# Altium footprint library 6902 0710 xx 72.PcbLib: 12 footprints
Each footprint in its own frame and in the unit in brackets; x right, y up, seen from the top. Pads: shape width x height; smd on the part's side, far side on the other; paste and mask are expansions set on the pad; w line width, h text height; cw(c..) or ccw(c..) is an arc to the next point about the centre after c.
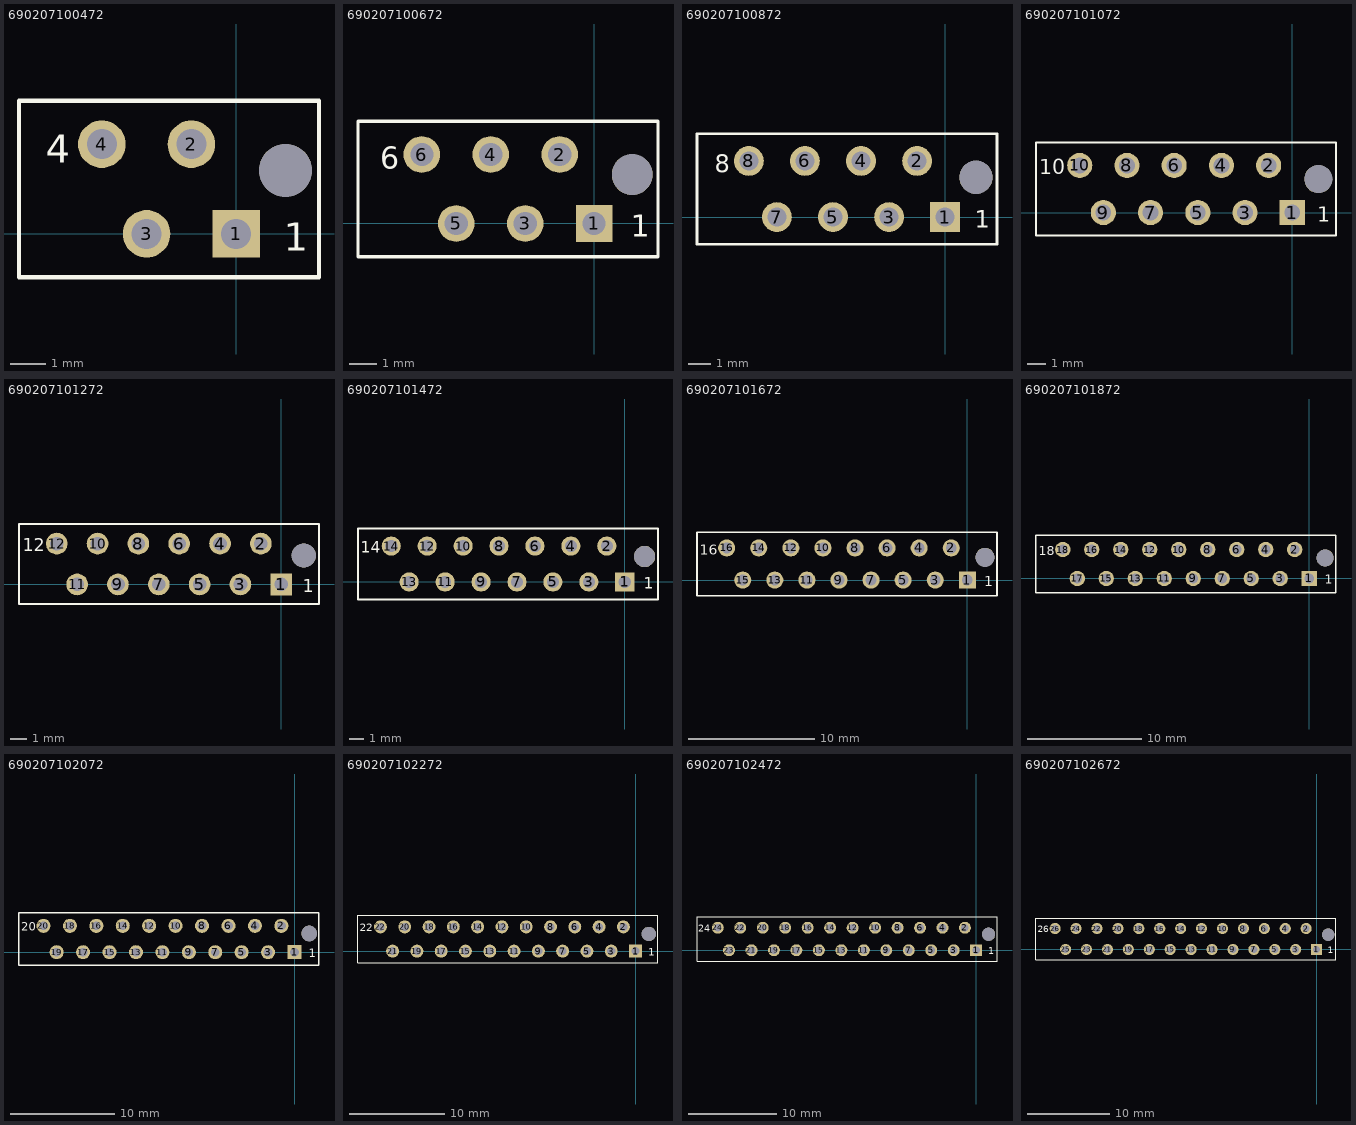
[diagram p0: the footprints below, top view; thin cyan lines are the x and y axes]

## 690207100472 [mm] "4 pins"
height 6.8
pads (5):
  rect 1.35x1.35 hole 0.85: 1(0,0)
  round 1.35 hole 0.85: 2(-1.27,2.54) 3(-2.54,0) 4(-3.81,2.54)
  round 1.5 hole 1.5 unplated: ""(1.4,1.8)
Top Overlay:
  lines w0.127: -6.16,3.77 2.35,3.77 2.35,-1.23 -6.16,-1.23 -6.16,3.77
  text "1" at 1.345,-0.48 h0.8
  text "4" at -5.405,2.02 h0.8
3D body: height 7.01, standoff -3.19, extent -6.16,-1.23 2.35,3.77

## 690207100672 [mm] "6 pins"
height 6.8
pads (7):
  rect 1.35x1.35 hole 0.85: 1(0,0)
  round 1.35 hole 0.85: 2(-1.27,2.54) 3(-2.54,0) 4(-3.81,2.54) 5(-5.08,0) 6(-6.35,2.54)
  round 1.5 hole 1.5 unplated: ""(1.4,1.8)
Top Overlay:
  lines w0.127: -8.7,-1.23 2.35,-1.23 2.35,3.77 -8.7,3.77 -8.7,-1.23
  text "6" at -7.885,2.02 h0.8
  text "1" at 1.345,-0.48 h0.8
3D body: height 7.01, standoff -3.19, extent -8.7,-1.23 2.35,3.77

## 690207100872 [mm] "8 pins"
height 6.8
pads (9):
  rect 1.35x1.35 hole 0.85: 1(0,0)
  round 1.35 hole 0.85: 2(-1.27,2.54) 3(-2.54,0) 4(-3.81,2.54) 5(-5.08,0) 6(-6.35,2.54) 7(-7.62,0) 8(-8.89,2.54)
  round 1.5 hole 1.5 unplated: ""(1.4,1.8)
Top Overlay:
  lines w0.127: -11.24,-1.23 -11.24,3.77 2.35,3.77 2.35,-1.23 -11.24,-1.23
  text "8" at -10.425,2.02 h0.8
  text "1" at 1.345,-0.48 h0.8
3D body: height 7.01, standoff -3.19, extent -11.24,-1.23 2.35,3.77

## 690207101072 [mm] "10 pins"
height 6.8
pads (11):
  rect 1.35x1.35 hole 0.85: 1(0,0)
  round 1.35 hole 0.85: 2(-1.27,2.54) 3(-2.54,0) 4(-3.81,2.54) 5(-5.08,0) 6(-6.35,2.54) 7(-7.62,0) 8(-8.89,2.54) 9(-10.16,0) 10(-11.43,2.54)
  round 1.5 hole 1.5 unplated: ""(1.4,1.8)
Top Overlay:
  lines w0.127: -13.78,-1.23 2.35,-1.23 2.35,3.77 -13.78,3.77 -13.78,-1.23
  text "10" at -13.615,2.07 h0.8
  text "1" at 1.345,-0.48 h0.8
3D body: height 7.01, standoff -3.19, extent -13.78,-1.23 2.35,3.77

## 690207101272 [mm] "12 pins"
height 6.8
pads (13):
  rect 1.35x1.35 hole 0.85: 1(0,0)
  round 1.35 hole 0.85: 2(-1.27,2.54) 3(-2.54,0) 4(-3.81,2.54) 5(-5.08,0) 6(-6.35,2.54) 7(-7.62,0) 8(-8.89,2.54) 9(-10.16,0) 10(-11.43,2.54) 11(-12.7,0) 12(-13.97,2.54)
  round 1.5 hole 1.5 unplated: ""(1.4,1.8)
Top Overlay:
  lines w0.127: -16.32,-1.23 2.35,-1.23 2.35,3.77 -16.32,3.77 -16.32,-1.23
  text "1" at 1.345,-0.48 h0.8
  text "12" at -16.085,2.07 h0.8
3D body: height 7.01, standoff -3.19, extent -16.32,-1.23 2.35,3.77

## 690207101472 [mm] "14 pins"
height 6.8
pads (15):
  rect 1.35x1.35 hole 0.85: 1(0,0)
  round 1.35 hole 0.85: 2(-1.27,2.54) 3(-2.54,0) 4(-3.81,2.54) 5(-5.08,0) 6(-6.35,2.54) 7(-7.62,0) 8(-8.89,2.54) 9(-10.16,0) 10(-11.43,2.54) 11(-12.7,0) 12(-13.97,2.54) 13(-15.24,0) 14(-16.51,2.54)
  round 1.5 hole 1.5 unplated: ""(1.4,1.8)
Top Overlay:
  lines w0.127: -18.86,-1.23 -18.86,3.77 2.35,3.77 2.35,-1.23 -18.86,-1.23
  text "1" at 1.345,-0.48 h0.8
  text "14" at -18.655,2.07 h0.8
3D body: height 7.01, standoff -3.19, extent -18.86,-1.23 2.35,3.77

## 690207101672 [mm] "16 pins"
height 6.8
pads (17):
  rect 1.35x1.35 hole 0.85: 1(0,0)
  round 1.35 hole 0.85: 2(-1.27,2.54) 3(-2.54,0) 4(-3.81,2.54) 5(-5.08,0) 6(-6.35,2.54) 7(-7.62,0) 8(-8.89,2.54) 9(-10.16,0) 10(-11.43,2.54) 11(-12.7,0) 12(-13.97,2.54) 13(-15.24,0) 14(-16.51,2.54) 15(-17.78,0) 16(-19.05,2.54)
  round 1.5 hole 1.5 unplated: ""(1.4,1.8)
Top Overlay:
  lines w0.127: -21.4,-1.23 2.35,-1.23 2.35,3.77 -21.4,3.77 -21.4,-1.23
  text "16" at -21.195,2.02 h0.8
  text "1" at 1.345,-0.48 h0.8
3D body: height 7.01, standoff -3.19, extent -21.4,-1.23 2.35,3.77

## 690207101872 [mm] "18 pins"
height 6.8
pads (19):
  rect 1.35x1.35 hole 0.85: 1(0,0)
  round 1.35 hole 0.85: 2(-1.27,2.54) 3(-2.54,0) 4(-3.81,2.54) 5(-5.08,0) 6(-6.35,2.54) 7(-7.62,0) 8(-8.89,2.54) 9(-10.16,0) 10(-11.43,2.54) 11(-12.7,0) 12(-13.97,2.54) 13(-15.24,0) 14(-16.51,2.54) 15(-17.78,0) 16(-19.05,2.54) 17(-20.32,0) 18(-21.59,2.54)
  round 1.5 hole 1.5 unplated: ""(1.4,1.8)
Top Overlay:
  lines w0.127: -23.94,-1.23 -23.94,3.77 2.35,3.77 2.35,-1.23 -23.94,-1.23
  text "1" at 1.345,-0.48 h0.8
  text "18" at -23.695,2.02 h0.8
3D body: height 7.01, standoff -3.19, extent -23.94,-1.23 2.35,3.77

## 690207102072 [mm] "20 pins"
height 6.8
pads (21):
  rect 1.35x1.35 hole 0.85: 1(0,0)
  round 1.35 hole 0.85: 2(-1.27,2.54) 3(-2.54,0) 4(-3.81,2.54) 5(-5.08,0) 6(-6.35,2.54) 7(-7.62,0) 8(-8.89,2.54) 9(-10.16,0) 10(-11.43,2.54) 11(-12.7,0) 12(-13.97,2.54) 13(-15.24,0) 14(-16.51,2.54) 15(-17.78,0) 16(-19.05,2.54) 17(-20.32,0) 18(-21.59,2.54) 19(-22.86,0) 20(-24.13,2.54)
  round 1.5 hole 1.5 unplated: ""(1.4,1.8)
Top Overlay:
  lines w0.127: -26.48,-1.23 -26.48,3.77 2.35,3.77 2.35,-1.23 -26.48,-1.23
  text "20" at -26.265,2.07 h0.8
  text "1" at 1.345,-0.48 h0.8
3D body: height 7.01, standoff -3.19, extent -26.48,-1.23 2.35,3.77

## 690207102272 [mm] "22 pins"
height 6.8
pads (23):
  rect 1.35x1.35 hole 0.85: 1(0,0)
  round 1.35 hole 0.85: 2(-1.27,2.54) 3(-2.54,0) 4(-3.81,2.54) 5(-5.08,0) 6(-6.35,2.54) 7(-7.62,0) 8(-8.89,2.54) 9(-10.16,0) 10(-11.43,2.54) 11(-12.7,0) 12(-13.97,2.54) 13(-15.24,0) 14(-16.51,2.54) 15(-17.78,0) 16(-19.05,2.54) 17(-20.32,0) 18(-21.59,2.54) 19(-22.86,0) 20(-24.13,2.54) 21(-25.4,0) 22(-26.67,2.54)
  round 1.5 hole 1.5 unplated: ""(1.4,1.8)
Top Overlay:
  lines w0.127: -29.02,-1.23 -29.02,3.77 2.35,3.77 2.35,-1.23 -29.02,-1.23
  text "22" at -28.835,2.07 h0.8
  text "1" at 1.345,-0.48 h0.8
3D body: height 7.01, standoff -3.19, extent -29.02,-1.23 2.35,3.77

## 690207102472 [mm] "24 pins"
height 6.8
pads (25):
  rect 1.35x1.35 hole 0.85: 1(0,0)
  round 1.35 hole 0.85: 2(-1.27,2.54) 3(-2.54,0) 4(-3.81,2.54) 5(-5.08,0) 6(-6.35,2.54) 7(-7.62,0) 8(-8.89,2.54) 9(-10.16,0) 10(-11.43,2.54) 11(-12.7,0) 12(-13.97,2.54) 13(-15.24,0) 14(-16.51,2.54) 15(-17.78,0) 16(-19.05,2.54) 17(-20.32,0) 18(-21.59,2.54) 19(-22.86,0) 20(-24.13,2.54) 21(-25.4,0) 22(-26.67,2.54) 23(-27.94,0) 24(-29.21,2.54)
  round 1.5 hole 1.5 unplated: ""(1.4,1.8)
Top Overlay:
  lines w0.127: -31.56,-1.23 2.35,-1.23 2.35,3.77 -31.56,3.77 -31.56,-1.23
  text "24" at -31.405,2.07 h0.8
  text "1" at 1.345,-0.48 h0.8
3D body: height 7.01, standoff -3.19, extent -31.56,-1.23 2.35,3.77

## 690207102672 [mm] "26 pins"
height 6.8
pads (27):
  rect 1.35x1.35 hole 0.85: 1(0,0)
  round 1.35 hole 0.85: 2(-1.27,2.54) 3(-2.54,0) 4(-3.81,2.54) 5(-5.08,0) 6(-6.35,2.54) 7(-7.62,0) 8(-8.89,2.54) 9(-10.16,0) 10(-11.43,2.54) 11(-12.7,0) 12(-13.97,2.54) 13(-15.24,0) 14(-16.51,2.54) 15(-17.78,0) 16(-19.05,2.54) 17(-20.32,0) 18(-21.59,2.54) 19(-22.86,0) 20(-24.13,2.54) 21(-25.4,0) 22(-26.67,2.54) 23(-27.94,0) 24(-29.21,2.54) 25(-30.48,0) 26(-31.75,2.54)
  round 1.5 hole 1.5 unplated: ""(1.4,1.8)
Top Overlay:
  lines w0.127: -34.075,-1.23 2.35,-1.23 2.35,3.77 -34.075,3.77 -34.075,-1.23
  text "1" at 1.345,-0.48 h0.8
  text "26" at -33.875,2.07 h0.8
3D body: height 7.01, standoff -3.19, extent -34.1,-1.23 2.35,3.77